# Altium schematic symbol library TIP110.SchLib: 1 symbol
Pins are listed as number, name and electrical type; pins without a type are passive.

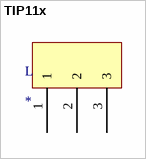
[diagram p0: symbol TIP11x]

## TIP11x
designator L
pins: 1, 2, 3